# Altium integrated library LM27313XMF.IntLib: 1 symbol
Pins are listed as number, name and electrical type; pins without a type are passive.

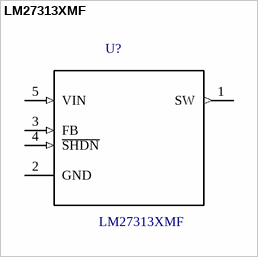
[diagram p0: symbol LM27313XMF]

## LM27313XMF
designator U?
1.6 MHz Boost Converter With 30V Internal FET Switch in SOT-23 5-SOT-23 -40 to 125; MP: LM27313XMF/NOPB; MF: Texas Instruments; SnapEDA_Link: https://www.snapeda.com/parts/LM27313XMF/NOPB/Texas%20Instruments/view-part/?ref=snap; Package: SOT-23-5 Texas Instruments; Availability: Good; Price: 1.12 USD; Value: *
footprint SOT95P285X120-5N
pins: 1 SW (out), 2 GND, 3 FB (in), 4 ~{SHDN} (in), 5 VIN (in)